# Altium footprint library dg.PcbLib: 57 footprints (part 2 of 4)
Each footprint in its own frame and in the unit in brackets; x right, y up, seen from the top. Pads: shape width x height; smd on the part's side, far side on the other; paste and mask are expansions set on the pad; w line width, h text height; cw(c..) or ccw(c..) is an arc to the next point about the centre after c.
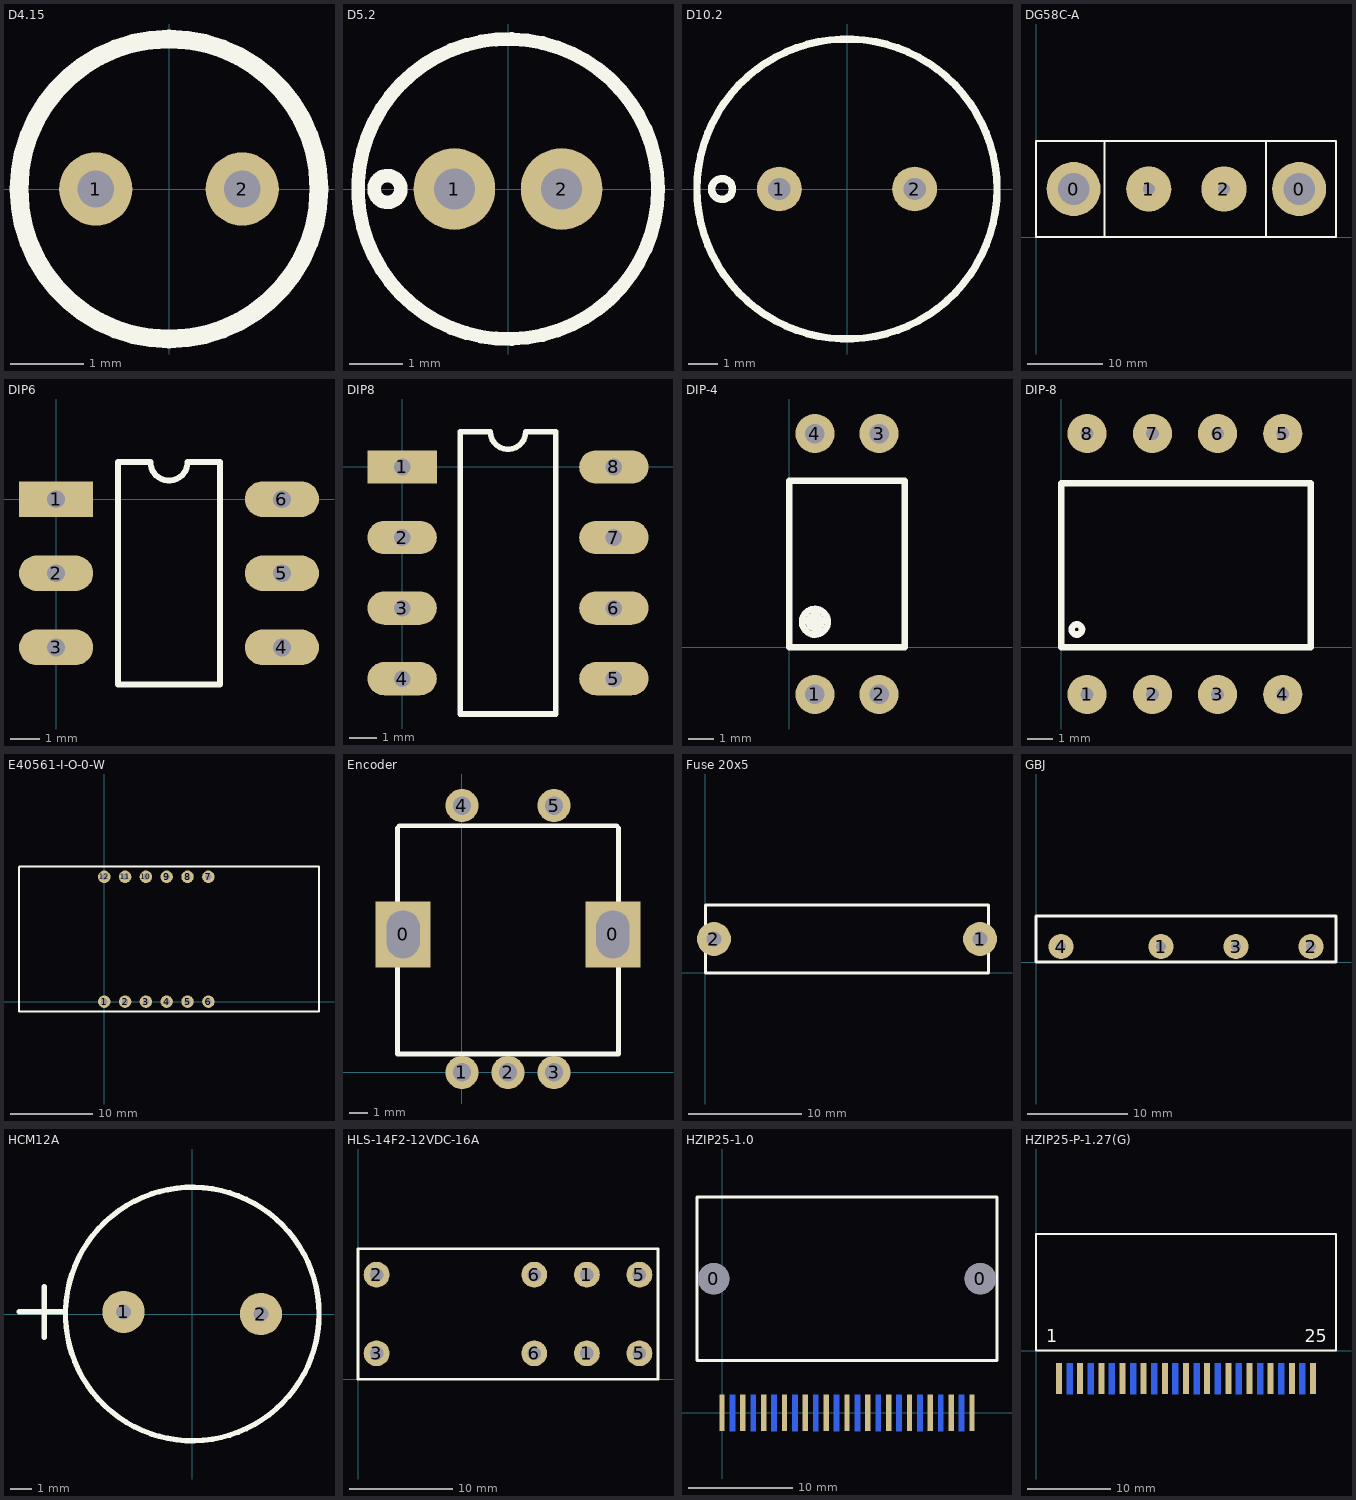
[diagram p1: the footprints below, top view; thin cyan lines are the x and y axes]

## D4.15 [mm]
height 7.6
pads (2):
  round 1 hole 0.5: 1(-1,0) 2(1,0)
Top Overlay:
  circle w0.254: c0,0 r2.05

## D5.2 [mil]
height 464.57
pads (2):
  round 60 hole 30: 1(-39.37,0) 2(39.37,0)
Top Overlay:
  circle w10: c-88.58,0 r9.84
  circle w10: c0,0 r110.24

## D10.2 [mil]
height 551.18
pads (2):
  round 60 hole 30: 1(-90.55,0) 2(90.55,0)
Top Overlay:
  circle w10: c-167.32,0 r13.92
  circle w10: c0,0 r200.79

## DG58C-A [mm]
height 20
pads (4):
  round 7.2 hole 4.2: 0(5,6.4) 0(35,6.4)
  round 6 hole 1.6: 1(15,6.4) 2(25,6.4)
Top Overlay:
  lines w0.254: 9.1,0 9.1,12.8 ; 30.6,0 30.6,12.8 ; 0,0 0,12.8 31.7,12.8 39.9,12.8 39.9,0 0,0

## DIP6 [mm]
pads (6):
  rect 2.5x1.2 hole 0.6: 1(0,0)
  oval 2.5x1.2 hole 0.6: 2(0,-2.5) 3(0,-5) 4(7.62,-5) 5(7.62,-2.5) 6(7.62,0)
Top Overlay:
  lines w0.2: 2.085,-6.25 5.535,-6.25 5.535,1.25 4.435,1.25 cw(c3.81,1.25) 3.185,1.25 2.085,1.25 2.085,-6.25

## DIP8 [mm]
pads (8):
  rect 2.5x1.2 hole 0.6: 1(0,0)
  oval 2.5x1.2 hole 0.6: 2(0,-2.54) 3(0,-5.08) 4(0,-7.62) 5(7.62,-7.62) 6(7.62,-5.08) 7(7.62,-2.54) 8(7.62,0)
Top Overlay:
  lines w0.2: 2.085,-8.89 2.085,1.27 3.175,1.27 ccw(c3.81,1.27) 4.445,1.27 5.535,1.27 5.535,-8.89 2.085,-8.89

## DIP-4 [mil]
height 6
pads (4):
  round 60 hole 30: 1(39.37,-72.05) 2(137.8,-72.05) 3(137.8,327.95) 4(39.37,327.95)
Top Overlay:
  circle w10: c37.98,39.37 r1.39
  circle w10: c39.52,39.37 r9.69
  circle w10: c39.37,39.37 r19.68
  lines w10: 0,0 177.17,0 177.17,255.91 0,255.91 0,0

## DIP-8 [mm]
height 5
pads (8):
  round 1.524 hole 0.5: 1(1,-1.83) 2(3.54,-1.83) 3(6.08,-1.83) 4(8.62,-1.83) 5(8.62,8.33) 6(6.08,8.33) 7(3.54,8.33) 8(1,8.33)
Top Overlay:
  circle w0.254: c0.6,0.7 r0.2
  lines w0.254: 0,0 0,6.4 9.7,6.4 9.7,0 0,0

## E40561-I-O-0-W [mil]
height 393.7
pads (12):
  round 60 hole 30: 1(0,0) 2(100,0) 3(200,0) 4(300,0) 5(400,0) 6(500,0) 7(500,600) 8(400,600) 9(300,600) 10(200,600) 11(100,600) 12(0,600)
Top Overlay:
  lines w10: -409.45,-47.24 -409.45,645.67 -405.51,649.61 1031.5,649.61 1031.5,-47.24 -409.45,-47.24

## Encoder [mm]
height 50
pads (7):
  rect 3x3.6 hole 1.8 slot 2.6 at 90 deg: 0(-3.2,7.5) 0(8.2,7.5)
  round 1.8 hole 1: 1(0,0) 2(2.5,0) 3(5,0) 4(0,14.5) 5(5,14.5)
Top Overlay:
  lines w0.254: -3.5,1 -3.5,13.3 -3.4,13.4 8.4,13.4 8.5,13.3 8.5,1 -3.5,1

## Fuse 20x5 [mm]
height 15
pads (2):
  round 3 hole 1.3: 1(24.25,3) 2(0.75,3)
Top Overlay:
  lines w0.254: 0,0 0,6 25,6 25,0 0,0
3D body "User Library-Fuse_Holder.STEP": height 13.44, standoff -5.4, extent 0.96,-1.5 24.12,7.5

## GBJ [mm]
height 20
pads (4):
  round 2.5 hole 1: 1(12.5,1.55) 2(27.5,1.55) 3(20,1.55) 4(2.5,1.55)
Top Overlay:
  lines w0.254: 0,0 0,4.6 30,4.6 30,0 0,0

## HCM12A [mm]
height 9
pads (2):
  round 2 hole 0.7: 1(-3.25,0.1) 2(3.25,0)
Top Overlay:
  circle w0.254: c0,0 r6
  lines w0.254: -8.2,0.1 -6,0.1 ; -7,-1.1 -7,1.3

## HLS-14F2-12VDC-16A [mm]
height 20
pads (8):
  round 2.5 hole 1.3: 1(22.12,2.5) 1(22.12,10.1) 2(1.8,10.1) 3(1.8,2.5) 5(27.2,2.5) 5(27.2,10.1) 6(17.04,2.5) 6(17.04,10.1)
Top Overlay:
  lines w0.254: 0,0 29,0 29,12.6 0,12.6 0,0

## HZIP25-1.0 [mm]
height 5
pads (27):
  round 3 hole 3: 0(-0.8,12.87) 0(24.8,12.87)
  rect 0.5x3.5 smd: 1(0,0) 3(2,0) 5(4,0) 7(6,0) 9(8,0) 11(10,0) 13(12,0) 15(14,0) 17(16,0) 19(18,0) 21(20,0) 23(22,0) 25(24,0)
  rect 0.5x3.5 smd far side: 2(1,0) 4(3,0) 6(5,0) 8(7,0) 10(9,0) 12(11,0) 14(13,0) 16(15,0) 18(17,0) 20(19,0) 22(21,0) 24(23,0)
Top Overlay:
  lines w0.254: -2.4,5.02 -2.4,20.72 26.4,20.72 26.4,5.02 -2.4,5.02

## HZIP25-P-1.27(G) [mm]
height 2
pads (25):
  rect 0.7x3.7 smd: 1(2.76,-3.35) 3(5.3,-3.35) 5(7.84,-3.35) 7(10.38,-3.35) 9(12.92,-3.35) 11(15.46,-3.35) 13(18,-3.35) 15(20.54,-3.35) 17(23.08,-3.35) 19(25.62,-3.35) 21(28.16,-3.35) 23(30.7,-3.35) 25(33.24,-3.35)
  rect 0.7x3.7 smd far side: 2(4.03,-3.35) 4(6.57,-3.35) 6(9.11,-3.35) 8(11.65,-3.35) 10(14.19,-3.35) 12(16.73,-3.35) 14(19.27,-3.35) 16(21.81,-3.35) 18(24.35,-3.35) 20(26.89,-3.35) 22(29.43,-3.35) 24(31.97,-3.35)
Top Overlay:
  lines w0.254: 0,0 36,0 36,14 0,14 0,0
  text "1" at 1.25,1 h1.52
  text "25" at 32.25,1 h1.52